# EAGLE library part TXB0101DCKR (library TXB0101DCKR)
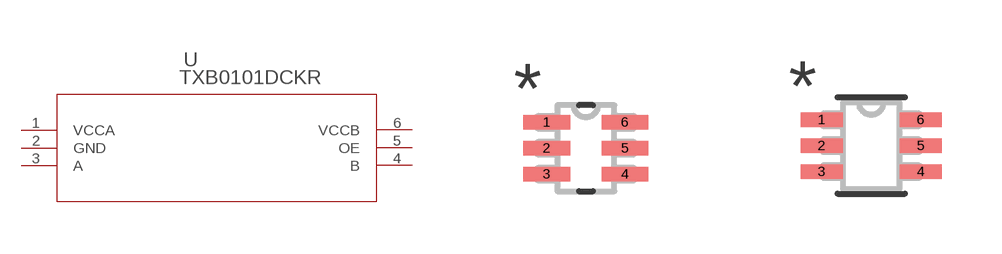
[diagram p0: symbol with the pads of DCK6; footprints DCK6, DCK6-M]

Designator prefix U

## TXB0101DCKRDCK6 (COPYRIGHT: Copyright (C) 2022 Ultra Librarian. All rights reserved.; DIGI-KEY_PART_NUMBER_1: 296-22861-1-ND; DIGI-KEY_PART_NUMBER_2: 296-22861-2-ND; DIGI-KEY_PART_NUMBER_3: 296-22861-6-ND; DIGI-KEY_PART_NUMBER_4: 2156-TXB0101DCKR-ND; MANUFACTURER_PART_NUMBER: TXB0101DCKR; MFR_NAME: Texas Instruments)  [DCK6]
1  VCCA  pwr
2  GND  pwr
3  A
4  B
5  OE  out
6  VCCB  pwr

## TXB0101DCKRDCK6-M (COPYRIGHT: Copyright (C) 2022 Ultra Librarian. All rights reserved.; DIGI-KEY_PART_NUMBER_1: 296-22861-1-ND; DIGI-KEY_PART_NUMBER_2: 296-22861-2-ND; DIGI-KEY_PART_NUMBER_3: 296-22861-6-ND; DIGI-KEY_PART_NUMBER_4: 2156-TXB0101DCKR-ND; MANUFACTURER_PART_NUMBER: TXB0101DCKR; MFR_NAME: Texas Instruments)  [DCK6-M]
Pads as for DCK6

## TXB0101DCKRDCK6-L (COPYRIGHT: Copyright (C) 2022 Ultra Librarian. All rights reserved.; DIGI-KEY_PART_NUMBER_1: 296-22861-1-ND; DIGI-KEY_PART_NUMBER_2: 296-22861-2-ND; DIGI-KEY_PART_NUMBER_3: 296-22861-6-ND; DIGI-KEY_PART_NUMBER_4: 2156-TXB0101DCKR-ND; MANUFACTURER_PART_NUMBER: TXB0101DCKR; MFR_NAME: Texas Instruments)  [DCK6-L]
Pads as for DCK6

## Footprint DCK6 (pad centres in mm)
smd 1.168 x 0.356: 1 -0.978,0.65; 2 -0.978,0; 3 -0.978,-0.65; 4 0.978,-0.65; 5 0.978,0; 6 0.978,0.65

## Footprint DCK6-M (pad centres in mm)
smd 1.054 x 0.356: 1 -1.238,0.65; 2 -1.238,0; 3 -1.238,-0.65; 4 1.238,-0.65; 5 1.238,0; 6 1.238,0.65

## Footprint DCK6-L (pad centres in mm)
smd 0.648 x 0.305: 1 -1.035,0.65; 2 -1.035,0; 3 -1.035,-0.65; 4 1.035,-0.65; 5 1.035,0; 6 1.035,0.65